# Altium footprint library RES-TERM-SF-MOUNT.PcbLib: 1 footprints
Each footprint in its own frame and in the unit in brackets; x right, y up, seen from the top. Pads: shape width x height; smd on the part's side, far side on the other; paste and mask are expansions set on the pad; w line width, h text height; cw(c..) or ccw(c..) is an arc to the next point about the centre after c.
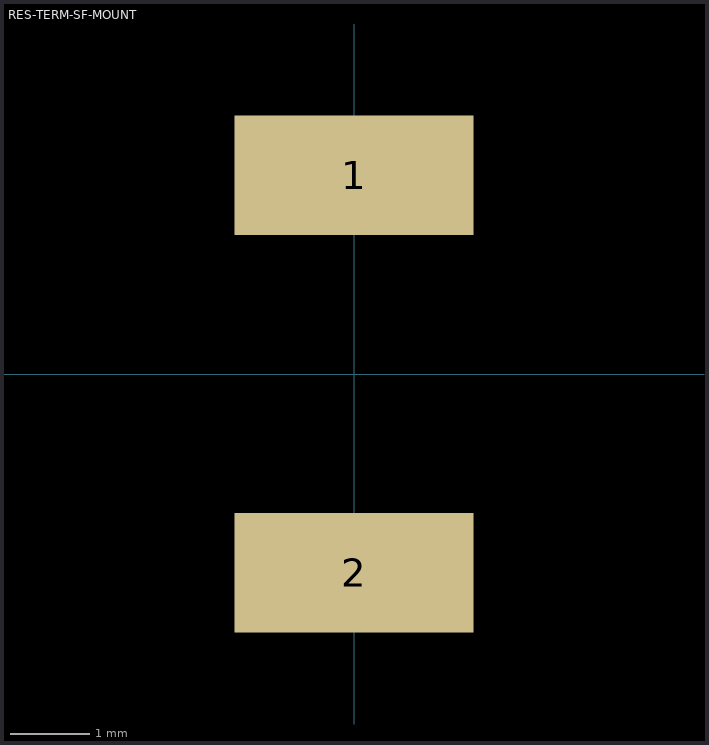
[diagram p0: the footprint, top view; thin cyan lines are the x and y axes]

## RES-TERM-SF-MOUNT [mm]
pads (2):
  rect 3x1.5 smd: 1(0,2.5) 2(0,-2.5)
3D body "термодатчик.STEP": height 0.98, standoff -0.72, extent -5,-0.843 -1,0.85